# Altium footprint library RESC_1608[0603]_N.PcbLib: 1 footprints
Each footprint in its own frame and in the unit in brackets; x right, y up, seen from the top. Pads: shape width x height; smd on the part's side, far side on the other; paste and mask are expansions set on the pad; w line width, h text height; cw(c..) or ccw(c..) is an arc to the next point about the centre after c.
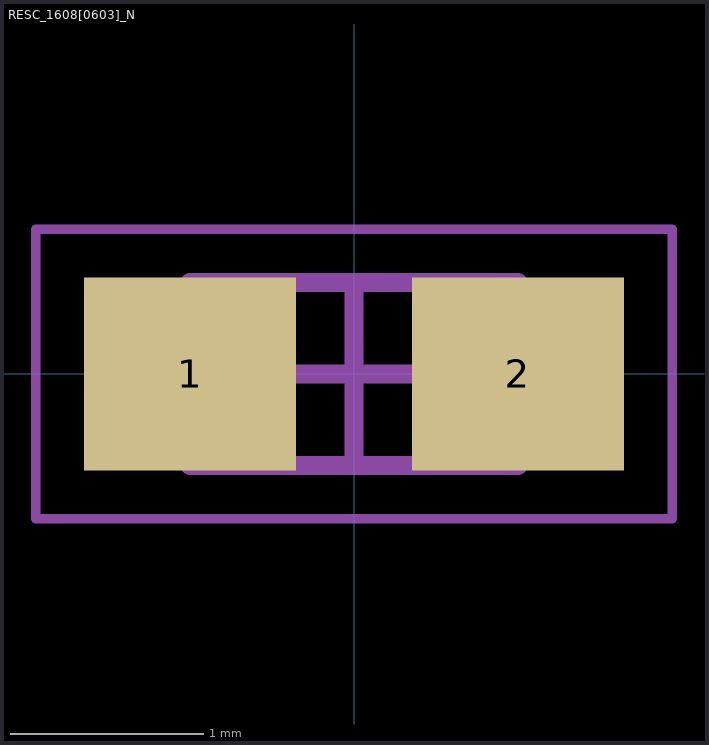
[diagram p0: the footprint, top view; thin cyan lines are the x and y axes]

## RESC_1608[0603]_N [mm] "Resistor EIA 0603"
height 0.6
pads (2):
  rect 1.1x1 smd: 1(-0.85,0) 2(0.85,0)
Mechanical 13:
  lines w0.1: -0.85,-0.475 0.85,-0.475 0.85,0.475 -0.85,0.475 -0.85,-0.475
Mechanical 15:
  lines w0.05: -1.65,-0.75 1.65,-0.75 1.65,0.75 -1.65,0.75 -1.65,-0.75
  lines w0.1: -0.475,0 0.475,0 ; 0,-0.475 0,0.475
3D body: height 0.6, standoff 0, extent 0.57,-0.475 0.85,0.475
3D body: height 0.6, standoff 0, extent -0.85,-0.475 -0.57,0.475
3D body: height 0.6, standoff 0, extent -0.57,-0.475 0.57,0.475